# Altium footprint library 2450BM14E0003.PcbLib: 1 footprints
Each footprint in its own frame and in the unit in brackets; x right, y up, seen from the top. Pads: shape width x height; smd on the part's side, far side on the other; paste and mask are expansions set on the pad; w line width, h text height; cw(c..) or ccw(c..) is an arc to the next point about the centre after c.
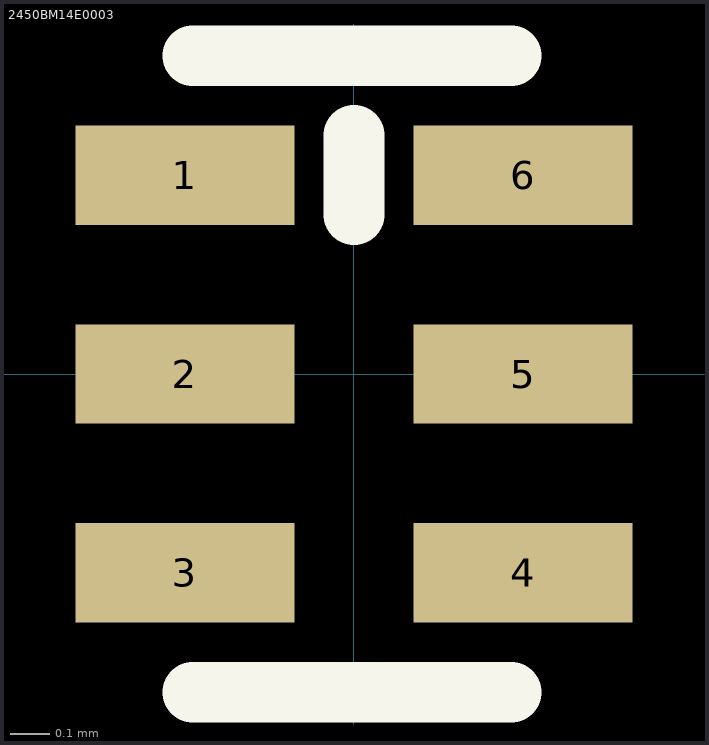
[diagram p0: the footprint, top view; thin cyan lines are the x and y axes]

## 2450BM14E0003 [mm]
pads (6):
  rect 0.55x0.25 smd: 1(-0.425,0.5) 2(-0.425,0) 3(-0.425,-0.5) 4(0.425,-0.5) 5(0.425,0) 6(0.425,0.5)
Top Overlay:
  lines w0.152: -0.405,-0.8 0.395,-0.8 ; -0.405,0.8 0.395,0.8 ; 0,0.4 0,0.6
3D body: height 0.6, standoff 0, extent -0.405,-0.8 0.395,0.8
3D body: height 0.62, standoff 0, extent -0.41,0.4 -0.26,0.6
3D body: height 0.62, standoff 0, extent -0.41,-0.1 -0.26,0.1
3D body: height 0.62, standoff 0, extent -0.41,-0.6 -0.26,-0.4
3D body: height 0.62, standoff 0, extent 0.26,-0.6 0.41,-0.4
3D body: height 0.62, standoff 0, extent 0.26,-0.1 0.41,0.1
3D body: height 0.62, standoff 0, extent 0.26,0.4 0.41,0.6
3D body: height 0.62, standoff 0, extent -0.04,0.4 0.04,0.6